# EAGLE library part RELAY_X8 (library RELAYx8)
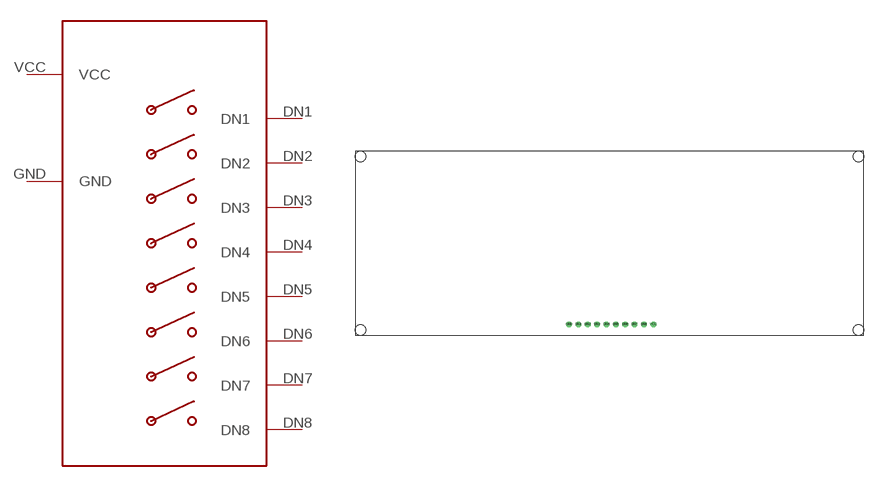
[diagram p0: symbol with the pads of RELAY_X8; footprint RELAY_X8]

Designator prefix -

## RELAY_X8  [RELAY_X8]
DN1  DN1
DN2  DN2
DN3  DN3
DN4  DN4
DN5  DN5
DN6  DN6
DN7  DN7
DN8  DN8
GND  GND
VCC  VCC

## Footprint RELAY_X8 (pad centres in mm)
8xRelay PCB
drill 1.016 octagon: DN1 60.57,3; DN2 63.11,3; DN3 65.65,3; DN4 68.19,3; DN5 70.73,3; DN6 73.27,3; DN7 75.81,3; DN8 78.35,3; GND 58.03,3; VCC 80.89,3
hole 2.8 at 1.5,1.5
hole 2.8 at 136.5,1.5
hole 2.8 at 136.5,48.5
hole 2.8 at 1.5,48.5